# EAGLE library part HP5082-7300 (library 1A-meinLib)
Hexadecimal and Numeric Display, Hewlett Packard
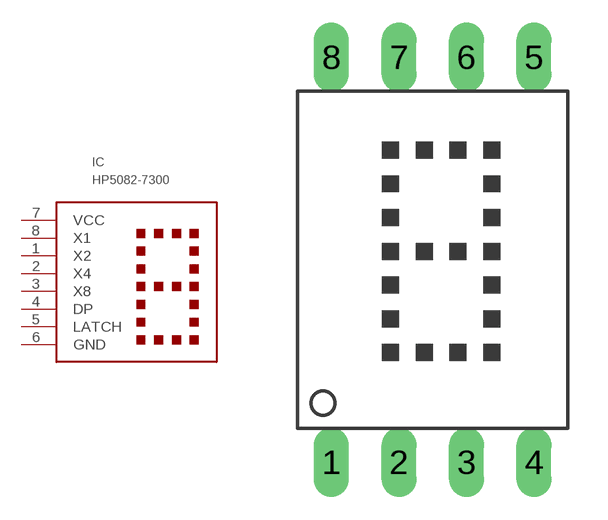
[diagram p32: symbol with the pads of HP5082; footprint HP5082]

Designator prefix IC

## HP5082-7300  [HP5082]
1  X2  in
2  X4  in
3  X8  in
4  DP  in
5  LATCH  in
6  GND  pwr
7  VCC  pwr
8  X1  in

## Footprint HP5082 (pad centres in mm)
drill 0.8 long: 1 -3.81,-7.62; 2 -1.27,-7.62; 3 1.27,-7.62; 4 3.81,-7.62; 5 3.81,7.62; 6 1.27,7.62; 7 -1.27,7.62; 8 -3.81,7.62